# Altium footprint library RelayBoard.PcbLib: 19 footprints (part 1 of 2)
Each footprint in its own frame and in the unit in brackets; x right, y up, seen from the top. Pads: shape width x height; smd on the part's side, far side on the other; paste and mask are expansions set on the pad; w line width, h text height; cw(c..) or ccw(c..) is an arc to the next point about the centre after c.
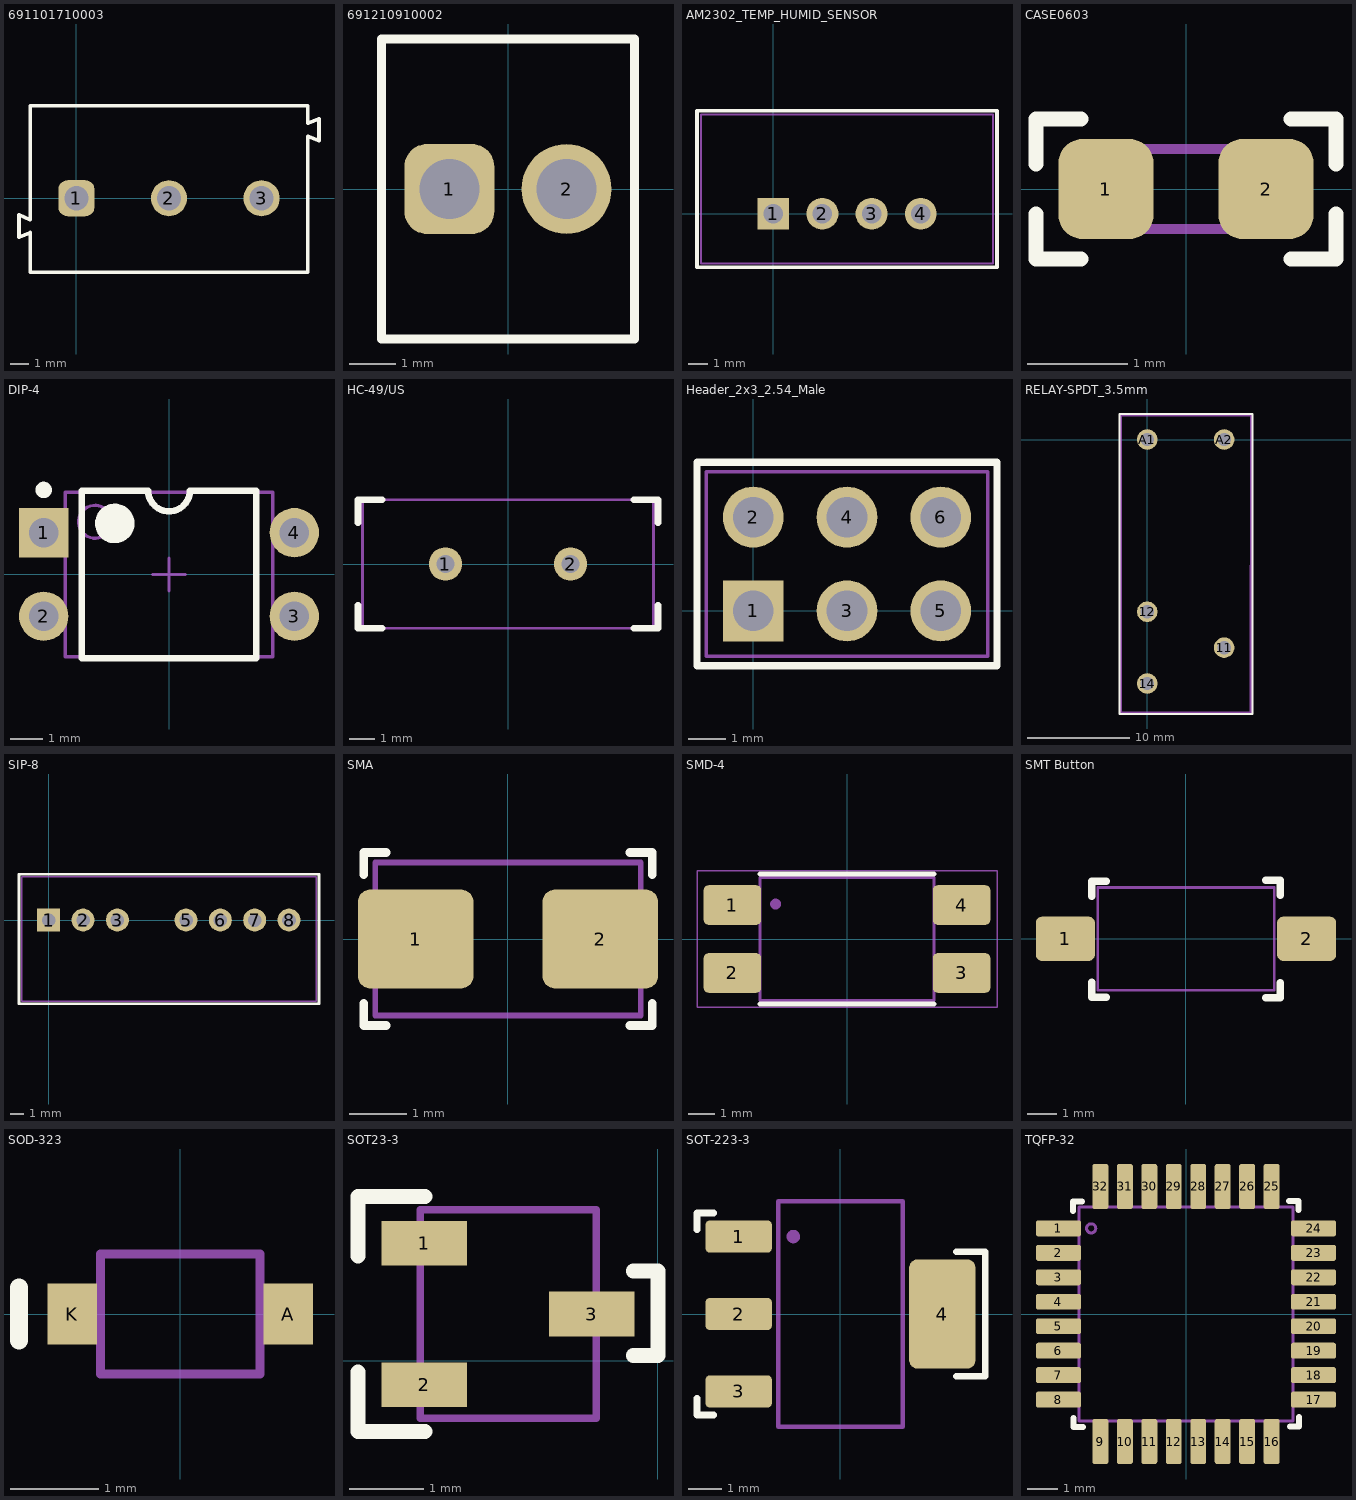
[diagram p0: the footprints below, top view; thin cyan lines are the x and y axes]

## 691101710003 [mm] "5,00mm - modular - blue - Horizontal entry with pressure clamp - 12,6mm height - 03p"
height 12.6
pads (3):
  rrect50% 1.95x1.95 hole 1.3: 1(0,0)
  round 1.95 hole 1.3: 2(5,0) 3(10,0)
Top Overlay:
  lines w0.2: 12.5,3.35 13.1,3.1 13.1,4.3 12.5,4.05 12.5,5 -2.5,5 -2.5,-1.15 -3.1,-0.9 -3.1,-2.1 -2.5,-1.85 -2.5,-4 12.5,-4 12.5,3.35
Top Mechanical:
  lines w0.1: 12.5,3.35 13.1,3.1 13.1,4.3 12.5,4.05 12.5,5 -2.5,5 -2.5,-1.15 -3.1,-0.9 -3.1,-2.1 -2.5,-1.85 -2.5,-4 12.5,-4 12.5,3.35
  text ".Designator" at -1.597,0.043 h3
3D body "691101710003.stp": height 12.65, standoff -3.75, extent -3.1,-4 13.1,5

## 691210910002 [mm] "2,54mm - modular - green - Horizontal wire entry - Cage clamp - 0,8mm2 wires - 02p"
height 8.5
pads (2):
  rrect50% 1.95x1.95 hole 1.3: 1(-1.27,0)
  round 1.95 hole 1.3: 2(1.27,0)
Top Overlay:
  lines w0.2: -2.74,-3.25 2.74,-3.25 2.74,3.25 -2.74,3.25 -2.74,-3.25
Top Mechanical:
  lines w0.1: -2.74,-3.25 2.74,-3.25 2.74,3.25 -2.74,3.25 -2.74,-3.25
  text ".Designator" at -3.378,-0.339 h1.5
3D body "691210910002.stp": height 8.55, standoff -3.45, extent -2.74,-3.25 2.74,3.25

## AM2302_TEMP_HUMID_SENSOR [mm]
pads (4):
  rect 1.65x1.65 hole 1: 1(0,0)
  round 1.65 hole 1: 2(2.54,0) 3(5.08,0) 4(7.62,0)
Top Overlay:
  lines w0.2: -3.94,-2.76 -3.94,5.32 11.56,5.32 11.56,-2.76 -3.94,-2.76
Top Mechanical:
  lines w0.1: -3.74,-2.56 -3.74,5.12 11.36,5.12 11.36,-2.56 -3.74,-2.56
  text ".Designator" at -2.812,0.404 h3
3D body: height 8.5, standoff -8.5, extent 7.37,-0.25 7.87,0.25
3D body: height 8.5, standoff -8.5, extent 4.83,-0.25 5.33,0.25
3D body: height 8.5, standoff -8.5, extent 2.29,-0.25 2.79,0.25
3D body: height 8.5, standoff -8.5, extent -0.25,-0.25 0.25,0.25
3D body: height 20, standoff 0, extent -3.74,-2.56 11.36,5.12
3D body: height 25.1, standoff 20, extent -3.74,-2.56 11.36,-2.065

## CASE0603 [mm]
pads (2):
  rrect50% 0.95x1 smd: 1(-0.8,0) 2(0.8,0)
Top Overlay:
  lines w0.15: -1.5,-0.25 -1.5,-0.7 -1.05,-0.7 ; -1.5,0.25 -1.5,0.7 -1.05,0.7 ; 1.05,-0.7 1.5,-0.7 1.5,-0.25 ; 1.05,0.7 1.5,0.7 1.5,0.25
Top Mechanical:
  lines w0.1: -0.8,-0.4 0.8,-0.4 0.8,0.4 -0.8,0.4 -0.8,-0.4
  text ".Designator" at -0.466,-0.109 h0.5
3D body "CircuitWorks-CAPACITOR 0603.step": height 0.85, standoff -0.01, extent -0.8,-0.43 0.8,0.43

## DIP-4 [mm] "DIP; 4 Leads; Row Spacing 7.62 mm; Pitch 2.54 mm"
height 3.5
pads (4):
  rect 1.5x1.5 hole 0.9: 1(-3.81,1.27)
  round 1.5 hole 0.9: 2(-3.81,-1.27) 3(3.81,-1.27) 4(3.81,1.27)
Top Overlay:
  circle w0.6: c-1.65,1.55 r0.3
  circle w0.25: c-3.81,2.57 r0.125
  lines w0.2: -2.65,-2.55 2.65,-2.55 2.65,2.55 0.635,2.55 cw(c0,2.55) -0.635,2.55 -2.65,2.55 -2.65,-2.55
Top Mechanical:
  circle w0.1: c-2.25,1.6 r0.5
  lines w0.1: -3.15,-2.5 3.15,-2.5 3.15,2.5 -3.15,2.5 -3.15,-2.5
  text ".Designator" at -4.535,-0.432 h2
Top Courtyard (Mech15):
  lines w0.1: -0.5,0 0.5,0 ; 0,-0.5 0,0.5
3D body: height 3.5, standoff 0, extent -3.15,-2.5 3.15,2.5

## HC-49/US [mm] "Crystal, Thru-Hole; 2 Leads"
height 3.5
pads (2):
  round 1.3 hole 0.7: 1(-2.44,0) 2(2.44,0)
Top Overlay:
  lines w0.254: -5.85,-1.6 -5.85,-2.5 -4.9,-2.5 ; -5.85,1.6 -5.85,2.5 -4.9,2.5 ; 4.9,-2.5 5.85,-2.5 5.85,-1.6 ; 4.9,2.5 5.85,2.5 5.85,1.6
Top Mechanical:
  lines w0.1: -5.675,-2.5 -5.675,2.5 5.675,2.5 5.675,-2.5 -5.675,-2.5
  text ".Designator" at -4.084,-0.314 h1.52
3D body "User Library-HC-49_LT_THT.STEP": height 3.6, standoff -1.99, extent -5.675,-2.325 5.675,2.325
3D body: height 3.61, standoff 0, extent -3.7,-1.325 3.6,1.3

## Header_2x3_2.54_Male [mm]
pads (6):
  rect 1.65x1.65 hole 1.1: 1(0,0)
  round 1.65 hole 1.1: 2(0,2.54) 3(2.54,0) 4(2.54,2.54) 5(5.08,0) 6(5.08,2.54)
Top Overlay:
  lines w0.2: -1.524,-1.484 6.604,-1.484 6.604,4.024 -1.524,4.024 -1.524,-1.484
Top Mechanical:
  lines w0.1: -1.27,-1.23 -1.27,3.77 6.35,3.77 6.35,-1.23 -1.27,-1.23
  text ".Designator" at -0.837,0.977 h1.52
3D body "PH2-06-UA.stp": height 9.01, standoff -3.56, extent -1.27,-1.23 6.35,3.77

## RELAY-SPDT_3.5mm [mm]
pads (5):
  round 2.007 hole 1.3: 11(7.5,-20.3) 12(0,-16.8) 14(0,-23.8) A1(0,0) A2(7.5,0)
Top Overlay:
  lines w0.2: -2.697,-26.772 -2.697,2.489 10.257,2.489 10.257,-26.772 -2.697,-26.772
Top Mechanical:
  lines w0.254: -2.57,2.33 -2.57,-26.64 9.85,-26.64 10.12,-26.64 10.13,2.2 10.13,2.35 -2.57,2.36
  text ".Designator" at -3.294,-13.079 h2
3D body "RELAY-SPDT_35mm.step": height 15.7, standoff 0, extent -2.57,-26.645 10.13,2.362

## SIP-8 [mm]
pads (7):
  rect 1.7x1.7 hole 1: 1(0,0)
  round 1.7 hole 1: 2(2.54,0) 3(5.08,0) 5(10.16,0) 6(12.7,0) 7(15.24,0) 8(17.78,0)
Top Overlay:
  lines w0.2: -2.2,-6.2 20,-6.2 20,3.4 -2.2,3.4 -2.2,-6.2
Top Mechanical:
  lines w0.1: -2,-6 19.8,-6 19.8,3.2 -2,3.2 -2,-6
  text ".Designator" at 1.982,-2.467 h3
3D body "RS3E.step": height 11.1, standoff -4.1, extent -2,-6 19.8,3.2

## SMA [mm] "Resistor CASE 1206"
height 0.6
pads (2):
  rrect25% 2x1.72 smd mask+0.102: 1(-1.6,0) 2(1.6,0)
Top Overlay:
  lines w0.15: -2.5,-1.114 -2.5,-1.5 -2.114,-1.5 ; -2.5,1.114 -2.5,1.5 -2.114,1.5 ; 2.114,-1.5 2.5,-1.5 2.5,-1.114 ; 2.114,1.5 2.5,1.5 2.5,1.114
Top Mechanical:
  lines w0.1: -2.3,-1.325 2.3,-1.325 2.3,1.325 -2.3,1.325 -2.3,-1.325
  text ".Designator" at -1.4,-0.4 h1.52
3D body "p25.stp": height 2.17, standoff 0, extent -2.538,-1.354 2.512,1.346

## SMD-4 [mm]
pads (4):
  rrect25% 2.15x1.48 smd: 1(-4.28,1.27) 2(-4.28,-1.27) 3(4.28,-1.27) 4(4.28,1.27)
Top Overlay:
  lines w0.2: -3.25,-2.427 3.25,-2.427 ; -3.25,2.427 3.25,2.427
  text "." at -5.954,2.267 h1.52
Top Mechanical:
  circle w0.2: c-2.669,1.306 r0.1
  lines w0.1: -3.25,-2.3 3.25,-2.3 3.25,2.3 -3.25,2.3 -3.25,-2.3
  text ".Designator" at -6.912,-0.896 h3
Top Courtyard (Mech15):
  lines w0.05: -5.605,-2.55 5.605,-2.55 5.605,2.55 -5.605,2.55 -5.605,-2.55
3D body "step_temp.STEP": height 4, standoff 0, extent -5,-2.29 5,2.29

## SMT Button [mm] "Button"
pads (2):
  rrect25% 2x1.5 smd: 1(-4.1,0) 2(4.1,0)
Top Overlay:
  lines w0.254: -3.211,-1.482 -3.211,-1.982 -2.711,-1.982 ; -3.21,1.451 -3.21,1.951 -2.71,1.951 ; 2.711,1.982 3.211,1.982 3.211,1.482 ; 2.712,-1.998 3.212,-1.998 3.212,-1.498
Top Mechanical:
  lines w0.1: -3,-1.75 3,-1.75 3,1.75 -3,1.75 -3,-1.75
  text ".Designator" at -4.084,-0.314 h1.52
3D body "PTS636SL43SMTRLFS.stp": height 4.3, standoff -0.03, extent -4.3,-1.75 4.3,1.75

## SOD-323 [mm]
height 0.6
pads (2):
  rect 0.56x0.69 smd: A(1.22,0) K(-1.22,0)
Top Overlay:
  lines w0.2: -1.82,-0.3 -1.82,0.3
Top Mechanical:
  lines w0.1: -0.9,-0.675 -0.9,0.675 0.9,0.675 0.9,-0.675 -0.9,-0.675
  text ".Designator" at -2.222,-0.164 h1
3D body "User Library-SOD323-1.step": height 1.1, standoff 0, extent -1.3,-0.675 1.3,0.675

## SOT23-3 [mm]
pads (3):
  rect 1.15x0.6 smd: 1(-3.14,1.579) 2(-3.14,-0.321) 3(-0.89,0.629)
Top Overlay:
  lines w0.2: -4.031,-0.15 -4.031,-0.95 -3.131,-0.95 ; -4.031,1.407 -4.031,2.207 -3.131,2.207 ; -0.333,0.072 0,0.072 0,1.208 -0.333,1.208
  text "." at -4.956,2.353 h1.52
Top Mechanical:
  lines w0.1: -3.192,-0.771 -0.83,-0.771 -0.83,2.029 -3.192,2.029 -3.192,-0.771
  text ".Designator" at -4.212,0.49 h1
3D body "CircuitWorks-SOT-23.step": height 1.1, standoff 0, extent -3.265,-0.871 -0.765,2.129

## SOT-223-3 [mm]
pads (4):
  rrect25% 1.97x0.95 smd: 1(-3.025,2.3) 2(-3.025,0) 3(-3.025,-2.3)
  rrect25% 1.97x3.25 smd: 4(3.025,0)
Top Overlay:
  lines w0.2: -4.262,-2.5 -4.262,-3 -3.762,-3 ; -4.262,2.5 -4.262,3 -3.762,3 ; 3.45,-1.85 4.3,-1.85 4.3,1.85 3.45,1.85
  text "." at -3.146,3.154 h1.52
Top Mechanical:
  circle w0.2: c-1.4,2.3 r0.1
  lines w0.127: -1.85,-3.35 -1.85,3.35 1.85,3.35 1.85,-3.35 -1.85,-3.35
  text ".Designator" at -4.084,-0.314 h1.52
3D body "SOT-223_3MC_MCH.step": height 1.8, standoff 0, extent -3.65,-3.35 3.65,3.35

## TQFP-32 [mm]
pads (32):
  rrect25% 1.47x0.52 smd: 1(-4.17,2.8) 2(-4.17,2) 3(-4.17,1.2) 4(-4.17,0.4) 5(-4.17,-0.4) 6(-4.17,-1.2) 7(-4.17,-2) 8(-4.17,-2.8) 17(4.17,-2.8) 18(4.17,-2) 19(4.17,-1.2) 20(4.17,-0.4) 21(4.17,0.4) 22(4.17,1.2) 23(4.17,2) 24(4.17,2.8)
  rrect25% 0.52x1.47 smd: 9(-2.8,-4.17) 10(-2,-4.17) 11(-1.2,-4.17) 12(-0.4,-4.17) 13(0.4,-4.17) 14(1.2,-4.17) 15(2,-4.17) 16(2.8,-4.17) 25(2.8,4.17) 26(2,4.17) 27(1.2,4.17) 28(0.4,4.17) 29(-0.4,4.17) 30(-1.2,4.17) 31(-2,4.17) 32(-2.8,4.17)
Top Overlay:
  lines w0.2: -3.7,3.378 -3.7,3.678 -3.4,3.678 ; -3.678,-3.4 -3.678,-3.7 -3.378,-3.7 ; 3.378,3.7 3.678,3.7 3.678,3.4 ; 3.4,-3.678 3.7,-3.678 3.7,-3.378
  text "." at -5.546,2.654 h1.52
Top Mechanical:
  circle w0.1: c-3.1,2.8 r0.15
  lines w0.1: -3.5,-3.5 -3.5,3.5 3.5,3.5 3.5,-3.5 -3.5,-3.5
  text ".Designator" at -2.352,-0.212 h1
3D body "TQFP32_32A_MCH.step": height 1.2, standoff 0, extent -4.623,-4.623 4.623,4.623